# Altium footprint library 2019-10-18_12-32-40.PcbLib: 3 footprints
Each footprint in its own frame and in the unit in brackets; x right, y up, seen from the top. Pads: shape width x height; smd on the part's side, far side on the other; paste and mask are expansions set on the pad; w line width, h text height; cw(c..) or ccw(c..) is an arc to the next point about the centre after c.
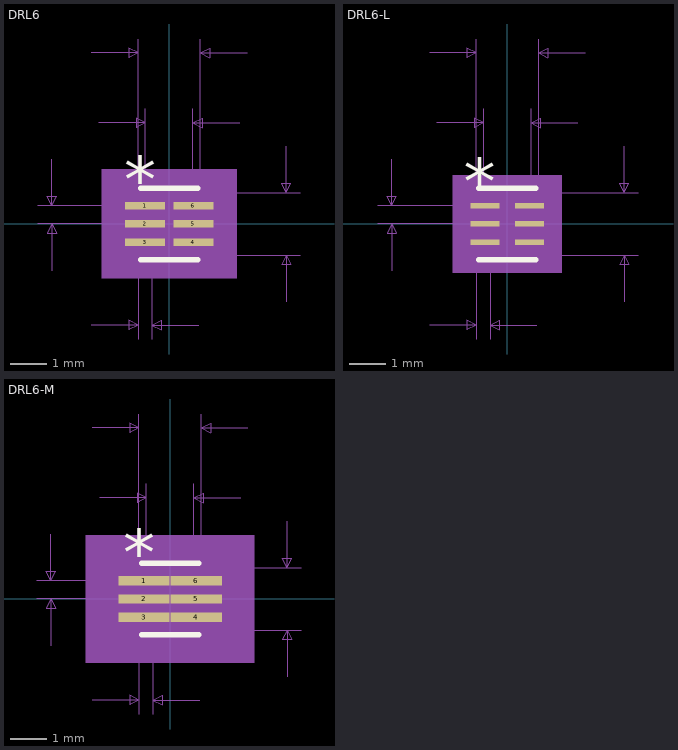
[diagram p0: the footprints below, top view; thin cyan lines are the x and y axes]

## DRL6 [mil]
pads (6):
  rect 43x8 smd paste+0 mask+0: 1(-26,19.68) 2(-26,0) 3(-26,-19.68) 4(26,-19.68) 5(26,0) 6(26,19.68)
Top Overlay:
  lines w6: -30.5,-38.5 30.5,-38.5 ; -30.5,38.5 30.5,38.5
  text "*" at -48.5,22.68 h50
Mechanical 5:
  region: 72.5,-58.5 -72.5,-58.5 -72.5,58.5 72.5,58.5
Mechanical 7:
  lines w1: -141,0 -26,0 ; -141,19.68 -26,19.68 ; -126,-50 -126,0 ; -126,69.69 -126,19.68 ; -83.5,-108.5 -33.5,-108.5 ; -83.5,183.5 -33.5,183.5 ; -75.5,108.5 -25.5,108.5 ; -33.5,-123.5 -33.5,0 -33.5,198.5 ; -25.5,0 -25.5,123.5 ; -18.5,-123.5 -18.5,0 ; 0,-33.5 140.5,-33.5 ; 0,33.5 140.5,33.5 ; 25.5,0 25.5,123.5 ; 31.5,-108.5 -18.5,-108.5 ; 33.5,0 33.5,198.5 ; 75.5,108.5 25.5,108.5 ; 83.5,183.5 33.5,183.5 ; 125.5,-83.5 125.5,-33.5 ; 125.5,83.5 125.5,33.5 ; -126,0 -131,-10 -121,-10 -126,0 ; -126,19.68 -131,29.68 -121,29.68 -126,19.68 ; -33.5,-108.5 -43.5,-103.5 -43.5,-113.5 -33.5,-108.5 ; -33.5,183.5 -43.5,188.5 -43.5,178.5 -33.5,183.5 ; -25.5,108.5 -35.5,113.5 -35.5,103.5 -25.5,108.5 ; -18.5,-108.5 -8.5,-103.5 -8.5,-113.5 -18.5,-108.5 ; 25.5,108.5 35.5,113.5 35.5,103.5 25.5,108.5 ; 33.5,183.5 43.5,188.5 43.5,178.5 33.5,183.5 ; 125.5,-33.5 120.5,-43.5 130.5,-43.5 125.5,-33.5 ; 125.5,33.5 120.5,43.5 130.5,43.5 125.5,33.5
  text "Default Padstyle: RX43Y8D0T" at -337.5,-233.5 h50
  text "Pin One Padstyle: RX43Y8D0T" at -337.5,-293.5 h50
  text "Alt 1 Padstyle: OX60Y90D30P" at -337.5,-473.5 h50
  text "Alt 2 Padstyle: OX90Y60D30P" at -337.5,-533.5 h50
  text "0.051in/1.295mm" at -93.75,128.5 h25
  text "0.067in/1.702mm" at -93.75,203.5 h25
  text "0.067in/1.702mm" at 145.5,-12.5 h25
  text "0.02in/0.5mm" at -296,-2.66 h25
  text "0.011in/0.279mm" at -119.75,-153.5 h25
Mechanical 13:
  lines w0: -12,33.5 ccw(c0,33.5) 12,33.5
  lines w1: -33.5,-24.68 -33.5,-14.69 -25.5,-14.69 -25.5,-24.68 -33.5,-24.68 ; -33.5,-5 -33.5,5 -25.5,5 -25.5,-5 -33.5,-5 ; -33.5,14.69 -33.5,24.68 -25.5,24.68 -25.5,14.69 -33.5,14.69 ; -25.5,-33.5 25.5,-33.5 25.5,33.5 -25.5,33.5 -25.5,-33.5 ; 25.5,-24.68 25.5,-14.69 33.5,-14.69 33.5,-24.68 25.5,-24.68 ; 25.5,-5 25.5,5 33.5,5 33.5,-5 25.5,-5 ; 25.5,14.69 25.5,24.68 33.5,24.68 33.5,14.69 25.5,14.69
  text "*" at -23,-19.5 h50
Mechanical 15:
  region: -35.5,-33.69 -57.5,-33.69 -57.5,33.69 -35.5,33.69 -35.5,43.5 35.5,43.5 35.5,33.69 57.5,33.69 57.5,-33.69 35.5,-33.69 35.5,-43.5 -35.5,-43.5
  lines w6: -57.5,-33.69 -57.5,33.69 -35.5,33.69 -35.5,43.5 35.5,43.5 35.5,33.69 57.5,33.69 57.5,-33.69 35.5,-33.69 35.5,-43.5 -35.5,-43.5 -35.5,-33.69 -57.5,-33.69
3D body: height 10, standoff 0, extent 0,0 10,10

## DRL6-L [mil]
pads (6):
  rect 31x6 smd paste+0 mask+0: 1(-24,19.68) 2(-24,0) 3(-24,-19.68) 4(24,-19.68) 5(24,0) 6(24,19.68)
Top Overlay:
  lines w6: -30.5,-38.5 30.5,-38.5 ; -30.5,38.5 30.5,38.5
  text "*" at -46.5,20.68 h50
Mechanical 5:
  region: 58.5,-52.5 -58.5,-52.5 -58.5,52.5 58.5,52.5
Mechanical 7:
  lines w1: -139,0 -24,0 ; -139,19.68 -24,19.68 ; -124,-50 -124,0 ; -124,69.69 -124,19.68 ; -83.5,-108.5 -33.5,-108.5 ; -83.5,183.5 -33.5,183.5 ; -75.5,108.5 -25.5,108.5 ; -33.5,-123.5 -33.5,0 -33.5,198.5 ; -25.5,0 -25.5,123.5 ; -18.5,-123.5 -18.5,0 ; 0,-33.5 140.5,-33.5 ; 0,33.5 140.5,33.5 ; 25.5,0 25.5,123.5 ; 31.5,-108.5 -18.5,-108.5 ; 33.5,0 33.5,198.5 ; 75.5,108.5 25.5,108.5 ; 83.5,183.5 33.5,183.5 ; 125.5,-83.5 125.5,-33.5 ; 125.5,83.5 125.5,33.5 ; -124,0 -129,-10 -119,-10 -124,0 ; -124,19.68 -129,29.68 -119,29.68 -124,19.68 ; -33.5,-108.5 -43.5,-103.5 -43.5,-113.5 -33.5,-108.5 ; -33.5,183.5 -43.5,188.5 -43.5,178.5 -33.5,183.5 ; -25.5,108.5 -35.5,113.5 -35.5,103.5 -25.5,108.5 ; -18.5,-108.5 -8.5,-103.5 -8.5,-113.5 -18.5,-108.5 ; 25.5,108.5 35.5,113.5 35.5,103.5 25.5,108.5 ; 33.5,183.5 43.5,188.5 43.5,178.5 33.5,183.5 ; 125.5,-33.5 120.5,-43.5 130.5,-43.5 125.5,-33.5 ; 125.5,33.5 120.5,43.5 130.5,43.5 125.5,33.5
  text "Default Padstyle: RX31Y6D0T" at -337.5,-233.5 h50
  text "Pin One Padstyle: RX31Y6D0T" at -337.5,-293.5 h50
  text "Alt 1 Padstyle: OX60Y90D30P" at -337.5,-473.5 h50
  text "Alt 2 Padstyle: OX90Y60D30P" at -337.5,-533.5 h50
  text "0.051in/1.295mm" at -93.75,128.5 h25
  text "0.067in/1.702mm" at -93.75,203.5 h25
  text "0.067in/1.702mm" at 145.5,-12.5 h25
  text "0.02in/0.5mm" at -294,-2.66 h25
  text "0.011in/0.279mm" at -119.75,-153.5 h25
Mechanical 13:
  lines w0: -12,33.5 ccw(c0,33.5) 12,33.5
  lines w1: -33.5,-24.68 -33.5,-14.69 -25.5,-14.69 -25.5,-24.68 -33.5,-24.68 ; -33.5,-5 -33.5,5 -25.5,5 -25.5,-5 -33.5,-5 ; -33.5,14.69 -33.5,24.68 -25.5,24.68 -25.5,14.69 -33.5,14.69 ; -25.5,-33.5 25.5,-33.5 25.5,33.5 -25.5,33.5 -25.5,-33.5 ; 25.5,-24.68 25.5,-14.69 33.5,-14.69 33.5,-24.68 25.5,-24.68 ; 25.5,-5 25.5,5 33.5,5 33.5,-5 25.5,-5 ; 25.5,14.69 25.5,24.68 33.5,24.68 33.5,14.69 25.5,14.69
  text "*" at -23,-19.5 h50
Mechanical 15:
  region: -29.5,-26.68 -43.5,-26.68 -43.5,26.68 -29.5,26.68 -29.5,37.5 29.5,37.5 29.5,26.68 43.5,26.68 43.5,-26.68 29.5,-26.68 29.5,-37.5 -29.5,-37.5
  lines w6: -43.5,-26.68 -43.5,26.68 -29.5,26.68 -29.5,37.5 29.5,37.5 29.5,26.68 43.5,26.68 43.5,-26.68 29.5,-26.68 29.5,-37.5 -29.5,-37.5 -29.5,-26.68 -43.5,-26.68
3D body: height 10, standoff 0, extent 0,0 10,10

## DRL6-M [mil]
pads (6):
  rect 55x10 smd paste+0 mask+0: 1(-28,19.68) 2(-28,0) 3(-28,-19.68) 4(28,-19.68) 5(28,0) 6(28,19.68)
Top Overlay:
  lines w6: -30.5,-38.5 30.5,-38.5 ; -30.5,38.5 30.5,38.5
  text "*" at -50.5,24.68 h50
Mechanical 5:
  region: 90.5,-68.5 -90.5,-68.5 -90.5,68.5 90.5,68.5
Mechanical 7:
  lines w1: -143,0 -28,0 ; -143,19.68 -28,19.68 ; -128,-50 -128,0 ; -128,69.69 -128,19.68 ; -83.5,-108.5 -33.5,-108.5 ; -83.5,183.5 -33.5,183.5 ; -75.5,108.5 -25.5,108.5 ; -33.5,-123.5 -33.5,0 -33.5,198.5 ; -25.5,0 -25.5,123.5 ; -18.5,-123.5 -18.5,0 ; 0,-33.5 140.5,-33.5 ; 0,33.5 140.5,33.5 ; 25.5,0 25.5,123.5 ; 31.5,-108.5 -18.5,-108.5 ; 33.5,0 33.5,198.5 ; 75.5,108.5 25.5,108.5 ; 83.5,183.5 33.5,183.5 ; 125.5,-83.5 125.5,-33.5 ; 125.5,83.5 125.5,33.5 ; -128,0 -133,-10 -123,-10 -128,0 ; -128,19.68 -133,29.68 -123,29.68 -128,19.68 ; -33.5,-108.5 -43.5,-103.5 -43.5,-113.5 -33.5,-108.5 ; -33.5,183.5 -43.5,188.5 -43.5,178.5 -33.5,183.5 ; -25.5,108.5 -35.5,113.5 -35.5,103.5 -25.5,108.5 ; -18.5,-108.5 -8.5,-103.5 -8.5,-113.5 -18.5,-108.5 ; 25.5,108.5 35.5,113.5 35.5,103.5 25.5,108.5 ; 33.5,183.5 43.5,188.5 43.5,178.5 33.5,183.5 ; 125.5,-33.5 120.5,-43.5 130.5,-43.5 125.5,-33.5 ; 125.5,33.5 120.5,43.5 130.5,43.5 125.5,33.5
  text "Default Padstyle: RX55Y10D0T" at -350,-233.5 h50
  text "Pin One Padstyle: RX55Y10D0T" at -350,-293.5 h50
  text "Alt 1 Padstyle: OX60Y90D30P" at -337.5,-473.5 h50
  text "Alt 2 Padstyle: OX90Y60D30P" at -337.5,-533.5 h50
  text "0.051in/1.295mm" at -93.75,128.5 h25
  text "0.067in/1.702mm" at -93.75,203.5 h25
  text "0.067in/1.702mm" at 145.5,-12.5 h25
  text "0.02in/0.5mm" at -298,-2.66 h25
  text "0.011in/0.279mm" at -119.75,-153.5 h25
Mechanical 13:
  lines w0: -12,33.5 ccw(c0,33.5) 12,33.5
  lines w1: -33.5,-24.68 -33.5,-14.69 -25.5,-14.69 -25.5,-24.68 -33.5,-24.68 ; -33.5,-5 -33.5,5 -25.5,5 -25.5,-5 -33.5,-5 ; -33.5,14.69 -33.5,24.68 -25.5,24.68 -25.5,14.69 -33.5,14.69 ; -25.5,-33.5 25.5,-33.5 25.5,33.5 -25.5,33.5 -25.5,-33.5 ; 25.5,-24.68 25.5,-14.69 33.5,-14.69 33.5,-24.68 25.5,-24.68 ; 25.5,-5 25.5,5 33.5,5 33.5,-5 25.5,-5 ; 25.5,14.69 25.5,24.68 33.5,24.68 33.5,14.69 25.5,14.69
  text "*" at -23,-19.5 h50
Mechanical 15:
  region: -45.5,-44.69 -75.5,-44.69 -75.5,44.69 -45.5,44.69 -45.5,53.5 45.5,53.5 45.5,44.69 75.5,44.69 75.5,-44.69 45.5,-44.69 45.5,-53.5 -45.5,-53.5
  lines w6: -75.5,-44.69 -75.5,44.69 -45.5,44.69 -45.5,53.5 45.5,53.5 45.5,44.69 75.5,44.69 75.5,-44.69 45.5,-44.69 45.5,-53.5 -45.5,-53.5 -45.5,-44.69 -75.5,-44.69
3D body: height 10, standoff 0, extent 0,0 10,10